# Altium footprint library PcbLib1.PcbLib: 24 footprints (part 1 of 2)
Each footprint in its own frame and in the unit in brackets; x right, y up, seen from the top. Pads: shape width x height; smd on the part's side, far side on the other; paste and mask are expansions set on the pad; w line width, h text height; cw(c..) or ccw(c..) is an arc to the next point about the centre after c.
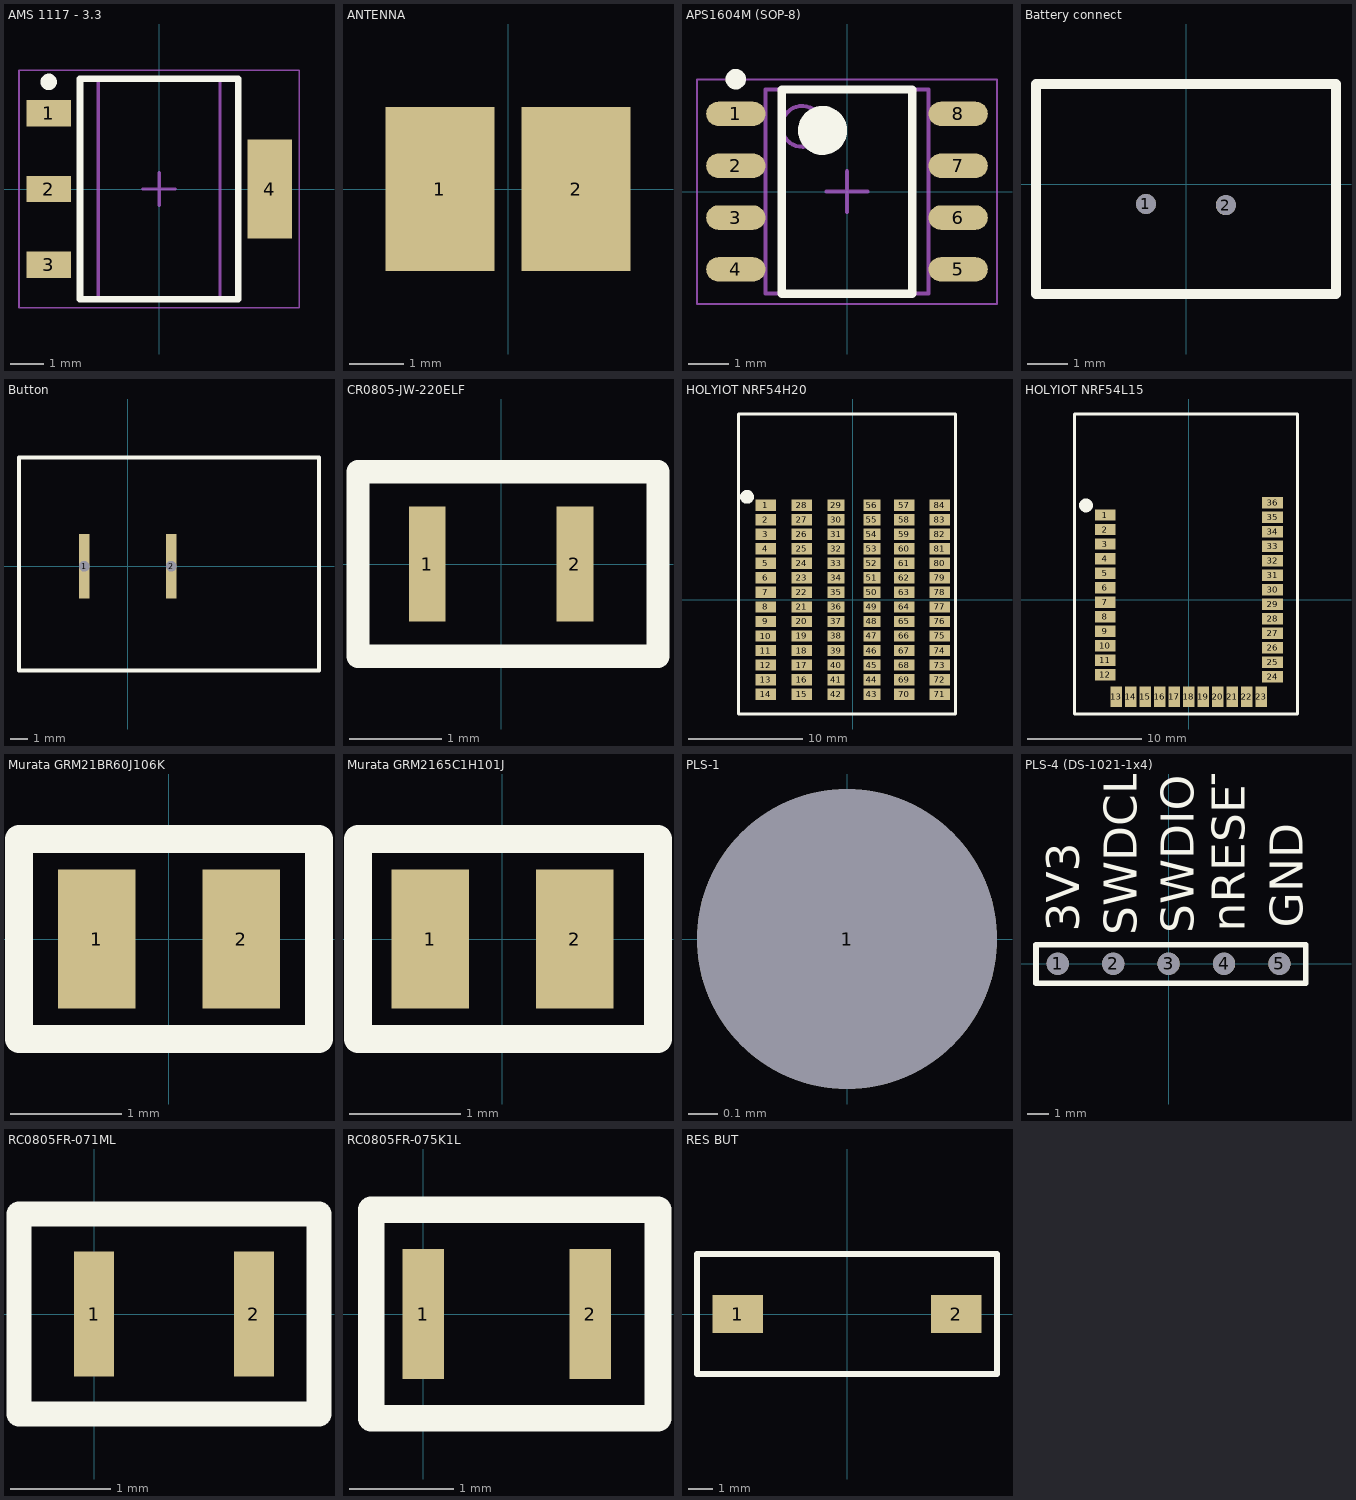
[diagram p0: the footprints below, top view; thin cyan lines are the x and y axes]

## AMS 1117 - 3.3 [mm] "SOT223, 4-Leads, Body 6,50x7,00mm (avg), Pitch 2,30mm, IPC Medium Density"
height 1.8
pads (4):
  rect 1.35x0.8 smd: 1(-3.35,2.3) 2(-3.35,0) 3(-3.35,-2.3)
  rect 1.35x3 smd: 4(3.35,0)
Top Overlay:
  circle w0.25: c-3.35,3.25 r0.125
  lines w0.2: -2.4,-3.35 2.4,-3.35 2.4,3.35 -2.4,3.35 -2.4,-3.35
Mechanical 13:
  lines w0.1: -1.85,-3.35 1.85,-3.35 1.85,3.35 -1.85,3.35 -1.85,-3.35
Mechanical 15:
  lines w0.05: -4.25,-3.6 4.25,-3.6 4.25,3.6 -4.25,3.6 -4.25,-3.6
  lines w0.1: -0.5,0 0.5,0 ; 0,-0.5 0,0.5
3D body: height 1.8, standoff 0.02, extent -1.85,-3.35 1.85,3.35

## ANTENNA [mm]
pads (2):
  rect 2x3 smd: 1(-1.25,0) 2(1.25,0)
3D body "1462360011.stp": height 0, standoff -0.17, extent -3.25,-29.74 19.75,2.5

## APS1604M (SOP-8) [mm] "TSOP, 8-Leads, Body 4,90x3,90mm, Pitch 1,27mm, IPC Medium Density"
height 1.35
pads (8):
  oval 1.45x0.6 smd: 1(-2.725,1.905) 2(-2.725,0.635) 3(-2.725,-0.635) 4(-2.725,-1.905) 5(2.725,-1.905) 6(2.725,-0.635) 7(2.725,0.635) 8(2.725,1.905)
Top Overlay:
  circle w0.25: c-2.725,2.755 r0.125
  circle w0.6: c-0.6,1.5 r0.3
  lines w0.2: -1.6,-2.5 -1.6,2.5 1.6,2.5 1.6,-2.5 -1.6,-2.5
Mechanical 13:
  circle w0.1: c-1.1,1.6 r0.5
  lines w0.1: -2,-2.5 -2,2.5 2,2.5 2,-2.5 -2,-2.5
Mechanical 15:
  lines w0.05: -3.675,-2.75 -3.675,2.75 3.675,2.75 3.675,-2.75 -3.675,-2.75
  lines w0.1: -0.5,0 0.5,0 ; 0,-0.5 0,0.5
3D body: height 1.35, standoff 0.7, extent -2,-2.5 2,2.5

## APS1604M-3SQR-ZR [mm]

## Battery connect [mm]
pads (2):
  round 0.5 hole 0.5: 1(-1,-0.5) 2(0.996,-0.527)
Top Overlay:
  lines w0.254: -3.75,-2.75 -3.75,2.5 3.75,2.5 3.75,-2.75 -3.75,-2.75
3D body "B2B-PH-K-S.step": height 6.2, standoff -3.2, extent -2.95,-2.25 2.95,2.25

## Button [mm] "SMRS-101-1C2"
pads (2):
  rect 0.6x3.7 hole 0.6 square: 1(-2.5,0) 2(2.5,0)
Top Overlay:
  lines w0.254: -6.25,-6 11,-6 11,6.25 -6.25,6.25 -6.25,-6
3D body "KCD1-11-2P-On.step": height 13.6, standoff -5.1, extent -5.1,-5.25 10.1,5.25

## CR0805-JW-220ELF [mm]
pads (2):
  rect 0.4x1.25 smd: 1(-0.8,0) 2(0.8,0)
Top Overlay:
  lines w0.254: -1.55,-1 -1.55,1 1.7,1 1.7,-1 -1.55,-1
3D body "CR0805-JW-220ELF.STEP": height 0.6, standoff 0, extent -1.025,-0.625 0.975,0.625

## HOLYIOT NRF54H20 [mm]
pads (84):
  rect 1.8x1 smd: 1(-7.6,8.255) 2(-7.6,6.985) 3(-7.6,5.715) 4(-7.6,4.445) 5(-7.6,3.175) 6(-7.6,1.905) 7(-7.6,0.635) 8(-7.6,-0.635) 9(-7.6,-1.905) 10(-7.6,-3.175) 11(-7.6,-4.445) 12(-7.6,-5.715) 13(-7.6,-6.985) 14(-7.6,-8.255) 15(-4.45,-8.255) 16(-4.45,-6.985) 17(-4.45,-5.715) 18(-4.45,-4.445) 19(-4.45,-3.175) 20(-4.45,-1.905) 21(-4.45,-0.635) 22(-4.45,0.635) 23(-4.45,1.905) 24(-4.45,3.175) 25(-4.45,4.445) 26(-4.45,5.715) 27(-4.45,6.985) 28(-4.45,8.255) 57(4.525,8.255) 58(4.525,6.985) 59(4.525,5.715) 60(4.525,4.445) 61(4.525,3.175) 62(4.525,1.905) 63(4.525,0.635) 64(4.525,-0.635) 65(4.525,-1.905) 66(4.525,-3.175) 67(4.525,-4.445) 68(4.525,-5.715) 69(4.525,-6.985) 70(4.525,-8.255) 71(7.6,-8.255) 72(7.6,-6.985) 73(7.6,-5.715) 74(7.6,-4.445) 75(7.6,-3.175) 76(7.6,-1.905) 77(7.6,-0.635) 78(7.6,0.635) 79(7.6,1.905) 80(7.6,3.175) 81(7.6,4.445) 82(7.6,5.715) 83(7.6,6.985) 84(7.6,8.255)
  rect 1.5x1 smd: 29(-1.451,8.255) 30(-1.451,6.985) 31(-1.451,5.715) 32(-1.451,4.445) 33(-1.451,3.175) 34(-1.451,1.905) 35(-1.451,0.635) 36(-1.451,-0.635) 37(-1.451,-1.905) 38(-1.451,-3.175) 39(-1.451,-4.445) 40(-1.451,-5.715) 41(-1.451,-6.985) 42(-1.451,-8.255) 43(1.674,-8.255) 44(1.674,-6.985) 45(1.674,-5.715) 46(1.674,-4.445) 47(1.674,-3.175) 48(1.674,-1.905) 49(1.674,-0.635) 50(1.674,0.635) 51(1.674,1.905) 52(1.674,3.175) 53(1.674,4.445) 54(1.674,5.715) 55(1.674,6.985) 56(1.674,8.255)
Top Overlay:
  circle w0.7: c-9.25,9 r0.25
  lines w0.254: -10,-10 9,-10 9,-3.438 9,9.687 9,16.25 -10,16.25 -10,-10
3D body "HOLYIOT-24008-nRF54H20.step": height 2.89, standoff 0, extent -8.255,-9.25 8.255,15.25

## HOLYIOT NRF54L15 [mm]
pads (36):
  rect 1.8x1 smd: 1(-7.32,7.412) 2(-7.32,6.142) 3(-7.32,4.872) 4(-7.32,3.602) 5(-7.32,2.332) 6(-7.32,1.062) 7(-7.32,-0.208) 8(-7.32,-1.478) 9(-7.32,-2.748) 10(-7.32,-4.018) 11(-7.32,-5.288) 12(-7.32,-6.558) 24(7.32,-6.753) 25(7.32,-5.478) 26(7.32,-4.208) 27(7.32,-2.938) 28(7.32,-1.668) 29(7.32,-0.398) 30(7.32,0.872) 31(7.32,2.142) 32(7.32,3.412) 33(7.32,4.682) 34(7.32,5.952) 35(7.32,7.222) 36(7.32,8.492)
  rect 1x1.8 smd: 13(-6.355,-8.492) 14(-5.08,-8.492) 15(-3.81,-8.492) 16(-2.54,-8.492) 17(-1.27,-8.492) 18(0,-8.492) 19(1.27,-8.492) 20(2.54,-8.492) 21(3.81,-8.492) 22(5.08,-8.492) 23(6.345,-8.492)
Top Overlay:
  circle w0.7: c-9,8.25 r0.25
  lines w0.254: -10,-10 9.5,-10 9.5,16.25 -10,16.25 -10,-10
3D body "HOLYIOT-24005-nRF54L15.step": height 2.43, standoff 0, extent -7.815,-9.02 7.815,15.02

## Murata GRM21BR60J106K [mm]
pads (2):
  rect 0.7x1.25 smd: 1(-0.65,0) 2(0.65,0)
Top Overlay:
  lines w0.254: -1.35,-0.9 -1.35,0.9 1.35,0.9 1.35,-0.9 -1.35,-0.9
3D body "GRM21BR60J107ME15K.STEP": height 1.24, standoff -0.01, extent -1,-0.7 1,0.75

## Murata GRM2165C1H101J [mm]
pads (2):
  rect 0.7x1.25 smd: 1(-0.65,0) 2(0.65,0)
Top Overlay:
  lines w0.254: -1.3,-0.9 1.4,-0.9 1.4,0.9 -1.3,0.9 -1.3,-0.9
3D body "GRM21BR60J107ME15K.STEP": height 1.24, standoff -0.01, extent -1,-0.7 1,0.75

## PLS-1 [mm]
pads (1):
  round 1.02 hole 1.02: 1(0,0)
3D body "MTSW-101-09-G-S-104.stp": height 16.06, standoff -2.48, extent -1.27,-1.27 1.27,1.27

## PLS-4 (DS-1021-1x4) [mm]
pads (5):
  round 1.02 hole 1.02: 1(-5.08,0) 2(-2.54,0) 3(0,0) 4(2.54,0) 5(5.08,0)
Top Overlay:
  lines w0.254: -6.08,-0.9 -4.305,-0.9 6.295,-0.9 6.295,0.875 -6.08,0.875 -6.08,-0.9
  text "3V3" at -4.1,1.475 h1.52
  text "SWDCLK" at -1.45,1.3 h1.52
  text "SWDIO" at 1.15,1.4 h1.52
  text "nRESET" at 3.5,1.475 h1.52
  text "GND" at 6.15,1.65 h1.52
3D body "DS1021-1_5SF1-1.STEP": height 8.6, standoff -3, extent -6.4,-1.265 6.3,1.275

## RC0805FR-071ML [mm]
pads (2):
  rect 0.4x1.25 smd: 1(0,0) 2(1.6,0)
Top Overlay:
  lines w0.254: -0.75,-1 -0.75,1 2.25,1 2.25,-1 -0.75,-1
3D body "RC0805FR-071ML.STEP": height 0.6, standoff 0, extent -0.203,-0.611 1.797,0.639

## RC0805FR-075K1L [mm]
pads (2):
  rect 0.4x1.25 smd: 1(0,0) 2(1.6,0)
Top Overlay:
  lines w0.254: -0.5,-1 2.25,-1 2.25,1 -0.5,1 -0.5,-1
3D body "RC0805FR-075K1L.STEP": height 0.6, standoff 0, extent -0.209,-0.636 1.791,0.614

## RES BUT [mm]
pads (2):
  rect 2.1x1.6 smd: 1(-4.55,0) 2(4.55,0)
Top Overlay:
  lines w0.254: -6.25,-2.5 -6.25,2.5 6.25,2.5 6.25,-2.5 -6.25,-2.5
3D body "1437566-3.STEP": height 4.4, standoff -0.02, extent -4.985,-1.75 4.985,1.75